# Altium footprint library TerminalBlock_Philmore.PcbLib: 2 footprints
Each footprint in its own frame and in the unit in brackets; x right, y up, seen from the top. Pads: shape width x height; smd on the part's side, far side on the other; paste and mask are expansions set on the pad; w line width, h text height; cw(c..) or ccw(c..) is an arc to the next point about the centre after c.
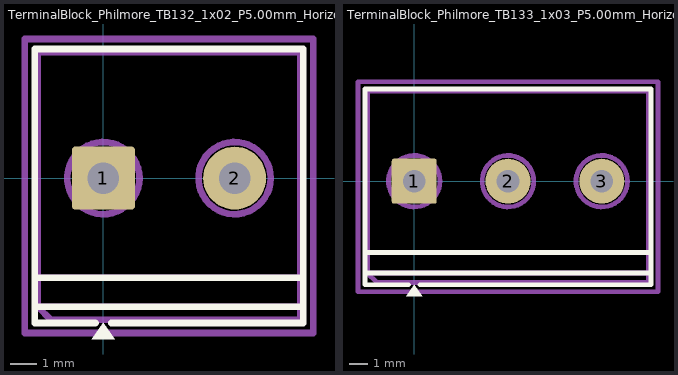
[diagram p0: the footprints below, top view; thin cyan lines are the x and y axes]

## TerminalBlock_Philmore_TB132_1x02_P5.00mm_Horizontal [mm]
pads (2):
  rrect10% 2.4x2.4 hole 1.2: 1(0,0)
  round 2.4 hole 1.2: 2(5,0)
F.SilkS:
  region: 0.44,-6.13 -0.44,-6.13 0,-5.52
  lines w0.254: -2.62,-4.9 7.62,-4.9 ; -2.62,-3.8 7.62,-3.8 ; -0.3,-5.52 -2.62,-5.52 -2.62,4.92 7.62,4.92 7.62,-5.52 0.3,-5.52
F.Fab:
  circle w0.254: c0,0 r1.375
  circle w0.254: c5,0 r1.375
  lines w0.254: -2.5,-3.8 7.5,-3.8 ; -1.031,0 1.031,0 ; 0,-1.031 0,1.031 ; 3.969,0 6.031,0 ; 5,-1.031 5,1.031 ; 7.5,-4.9 -2.5,-4.9 ; -2.5,-4.9 -2.5,4.8 7.5,4.8 7.5,-5.4 -2,-5.4 -2.5,-4.9
  text "'.Designator'" at -1.547,-3.64 h1
F.CrtYd:
  lines w0.254: -3,-5.9 -3,5.3 8,5.3 8,-5.9 -3,-5.9

## TerminalBlock_Philmore_TB133_1x03_P5.00mm_Horizontal [mm]
pads (3):
  rrect10% 2.4x2.4 hole 1.2: 1(0,0)
  round 2.4 hole 1.2: 2(5,0) 3(10,0)
F.SilkS:
  region: 0.44,-6.13 -0.44,-6.13 0,-5.52
  lines w0.254: -2.62,-4.9 12.62,-4.9 ; -2.62,-3.8 12.62,-3.8 ; -0.3,-5.52 -2.62,-5.52 -2.62,4.92 12.62,4.92 12.62,-5.52 0.3,-5.52
F.Fab:
  circle w0.254: c0,0 r1.375
  circle w0.254: c5,0 r1.375
  circle w0.254: c10,0 r1.375
  lines w0.254: -2.5,-3.8 12.5,-3.8 ; -1.031,0 1.031,0 ; 0,-1.031 0,1.031 ; 3.969,0 6.031,0 ; 5,-1.031 5,1.031 ; 8.969,0 11.031,0 ; 10,-1.031 10,1.031 ; 12.5,-4.9 -2.5,-4.9 ; -2.5,-4.9 -2.5,4.8 12.5,4.8 12.5,-5.4 -2,-5.4 -2.5,-4.9
  text "'.Designator'" at 0.953,-3.64 h1
F.CrtYd:
  lines w0.254: -3,-5.9 -3,5.3 13,5.3 13,-5.9 -3,-5.9